# Altium schematic symbol library M8_f3.SchLib: 1 symbol
Pins are listed as number, name and electrical type; pins without a type are passive.

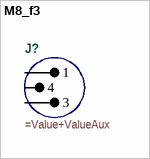
[diagram p0: symbol M8_f3]

## M8_f3
designator J?
=Description
pins: 1, 3, 4